# Altium footprint library Wire to Board.PcbLib: 28 footprints (part 1 of 2)
Each footprint in its own frame and in the unit in brackets; x right, y up, seen from the top. Pads: shape width x height; smd on the part's side, far side on the other; paste and mask are expansions set on the pad; w line width, h text height; cw(c..) or ccw(c..) is an arc to the next point about the centre after c.
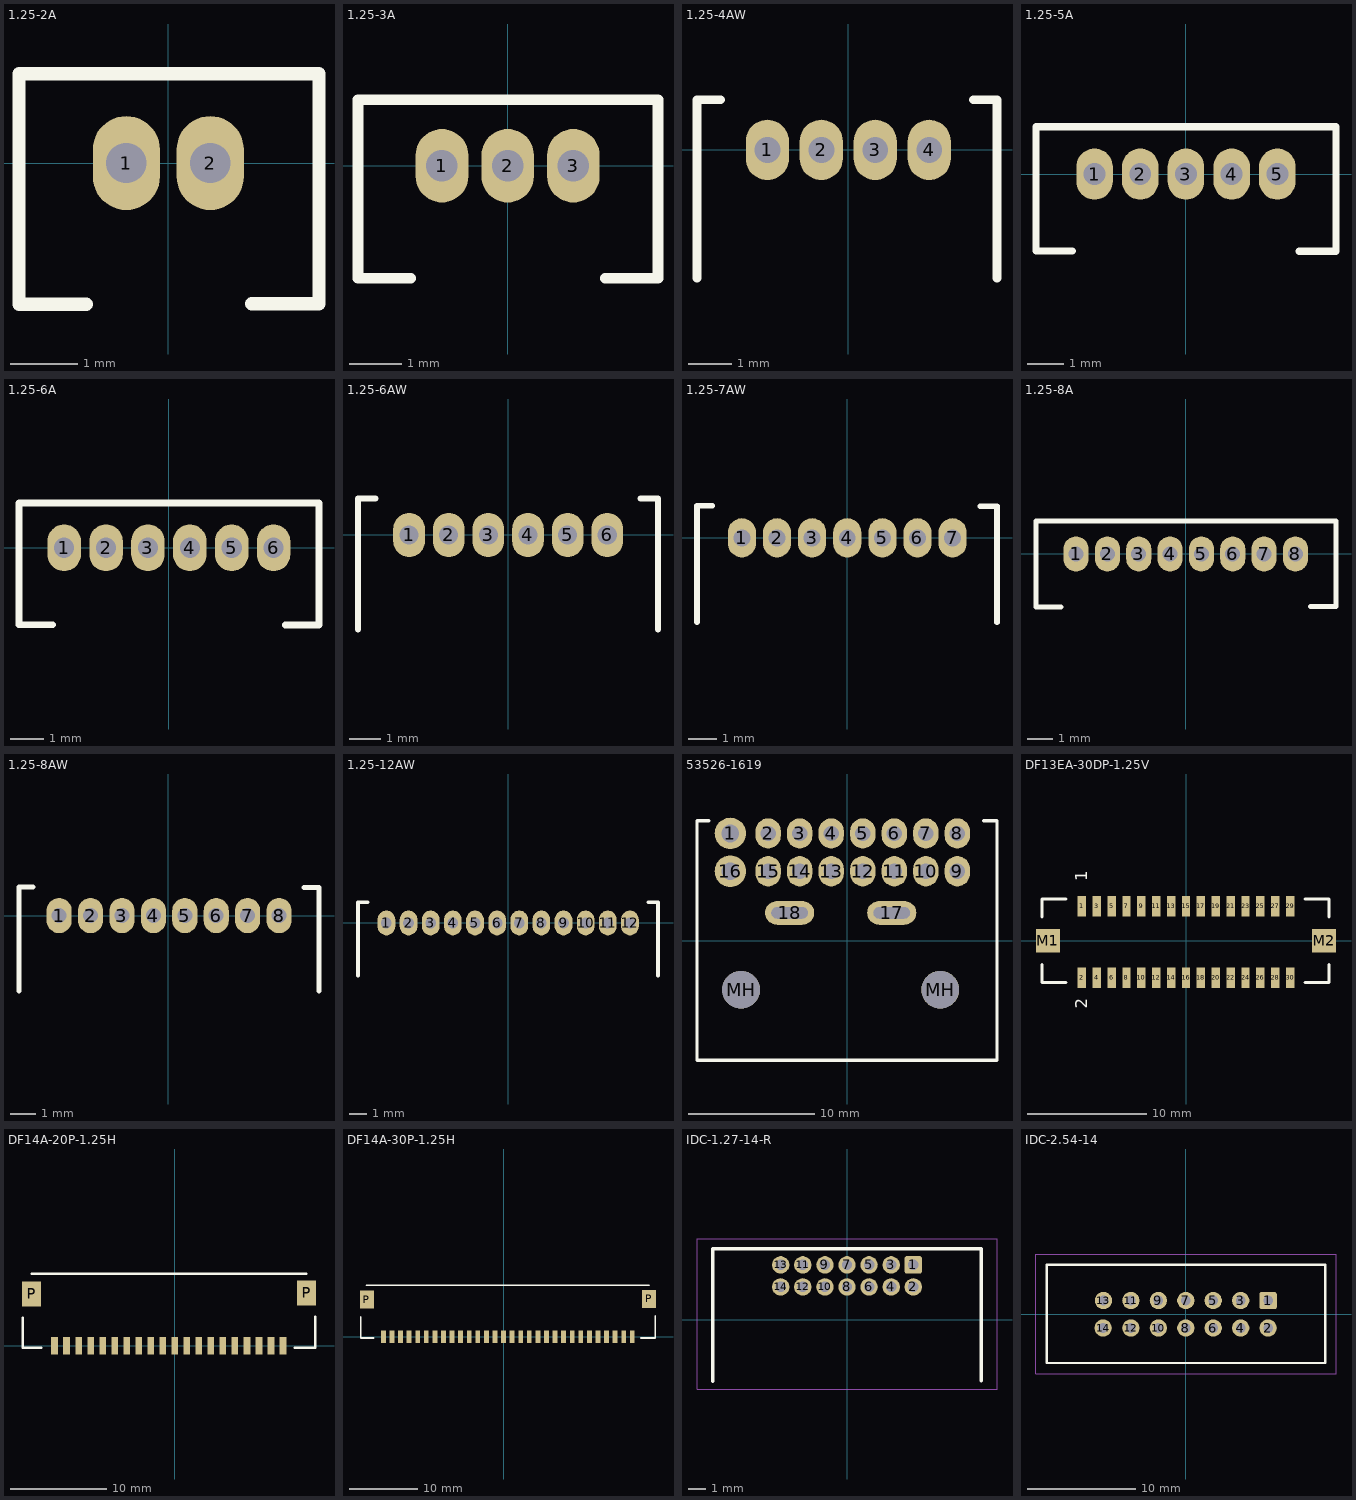
[diagram p0: the footprints below, top view; thin cyan lines are the x and y axes]

## 1.25-2A [mm] "Connector; 2 Positions;"
height 4.2
pads (2):
  oval 1x1.4 hole 0.6 mask+0.05: 1(-0.625,0) 2(0.625,0)
Top Overlay:
  lines w0.2: -1.224,-2.102 -2.224,-2.102 -2.224,1.33 2.244,1.33 2.244,-2.094 ; 1.24,-2.094 2.24,-2.094
3D body "0530470210.stp": height 4.25, standoff -2.25, extent -2.115,-1.99 2.135,1.21

## 1.25-3A [mm] "Connector; 3 Positions;"
height 4.2
pads (3):
  oval 1x1.4 hole 0.6 mask+0.05: 1(-1.25,0) 2(0,0) 3(1.25,0)
Top Overlay:
  lines w0.2: -1.848,-2.14 -2.848,-2.14 -2.848,1.257 2.86,1.257 2.86,-2.139 1.86,-2.139
3D body "0530470310.stp": height 4.25, standoff -2.25, extent -2.75,-2.04 2.75,1.16

## 1.25-4AW [mm] "Connector; 4 Positions;"
height 3.5
pads (4):
  oval 1x1.4 hole 0.6 mask+0.05: 1(-1.875,0) 2(-0.625,0) 3(0.625,0) 4(1.875,0)
Top Overlay:
  lines w0.2: -3.506,-2.973 -3.506,1.161 -2.956,1.161 ; 2.896,1.161 3.446,1.161 3.446,-2.973
3D body "0530480410.stp": height 3.55, standoff -2.25, extent -3.405,-4.45 3.345,1.05

## 1.25-5A [mm] "Connector; 5 Positions;"
height 4.6
pads (5):
  oval 1x1.4 hole 0.6 mask+0.05: 1(-2.5,0) 2(-1.25,0) 3(0,0) 4(1.25,0) 5(2.5,0)
Top Overlay:
  lines w0.2: -3.101,-2.106 -4.101,-2.106 -4.101,1.292 4.103,1.292 4.103,-2.108 ; 3.1,-2.108 4.1,-2.108
3D body "2138867.stp": height 4.3, standoff -2.2, extent -4,-2.01 4,1.19

## 1.25-6A [mm] "Connector; 6 Positions;"
height 4.6
pads (6):
  oval 1x1.4 hole 0.6 mask+0.05: 1(-3.125,0) 2(-1.875,0) 3(-0.625,0) 4(0.625,0) 5(1.875,0) 6(3.125,0)
Top Overlay:
  lines w0.2: -3.474,-2.293 -4.474,-2.293 -4.474,1.339 4.481,1.339 4.481,-2.306 ; 3.47,-2.306 4.47,-2.306
3D body "m30-6100646.stp": height 4.35, standoff -2.25, extent -4.375,-2.18 4.375,1.22

## 1.25-6AW [mm] "Connector; 6 Positions;"
height 3.5
pads (6):
  oval 1x1.4 hole 0.6 mask+0.05: 1(-3.125,0) 2(-1.875,0) 3(-0.625,0) 4(0.625,0) 5(1.875,0) 6(3.125,0)
Top Overlay:
  lines w0.2: -4.736,-2.983 -4.736,1.151 -4.186,1.151 ; 4.176,1.151 4.726,1.151 4.726,-2.983
3D body "530480610.stp": height 3.55, standoff -2.25, extent -4.625,-4.46 4.625,1.04

## 1.25-7AW [mm] "Connector; 7 Positions; Right Angle"
height 3.5
pads (7):
  oval 1x1.4 hole 0.6 mask+0.05: 1(-3.75,0) 2(-2.5,0) 3(-1.25,0) 4(0,0) 5(1.25,0) 6(2.5,0) 7(3.75,0)
Top Overlay:
  lines w0.2: -5.349,-2.993 -5.349,1.142 -4.8,1.142 ; 4.74,1.129 5.331,1.129 5.331,-3
3D body "0530480710.stp": height 3.55, standoff -2.25, extent -5.26,-4.46 5.24,1.04

## 1.25-8A [mm] "Connector; 8 Positions;"
height 4.6
pads (8):
  oval 1x1.4 hole 0.6 mask+0.05: 1(-4.375,0) 2(-3.125,0) 3(-1.875,0) 4(-0.625,0) 5(0.625,0) 6(1.875,0) 7(3.125,0) 8(4.375,0)
Top Overlay:
  lines w0.2: -4.973,-2.108 -5.973,-2.108 -5.973,1.307 5.995,1.307 5.995,-2.103 ; 4.985,-2.103 5.985,-2.103
3D body "2138886.stp": height 4.3, standoff -2.2, extent -5.86,-2.01 5.89,1.19

## 1.25-8AW [mm] "Connector; 8 Positions; Right Angle"
height 3.5
pads (8):
  oval 1x1.4 hole 0.6 mask+0.05: 1(-4.35,0) 2(-3.1,0) 3(-1.85,0) 4(-0.6,0) 5(0.65,0) 6(1.9,0) 7(3.15,0) 8(4.4,0)
Top Overlay:
  lines w0.2: -5.949,-2.993 -5.949,1.142 -5.4,1.142 ; 5.4,1.129 5.991,1.129 5.991,-3
3D body "0530480810.stp": height 3.52, standoff -2.28, extent -5.855,-4.46 5.895,1.04

## 1.25-12AW [mm] "Connector; 12 Positions; Right Angle"
height 3.5
pads (12):
  oval 1x1.4 hole 0.6 mask+0.05: 1(-6.875,0) 2(-5.625,0) 3(-4.375,0) 4(-3.125,0) 5(-1.875,0) 6(-0.625,0) 7(0.625,0) 8(1.875,0) 9(3.125,0) 10(4.375,0) 11(5.625,0) 12(6.875,0)
Top Overlay:
  lines w0.2: -8.479,-2.973 -8.479,1.162 -7.93,1.162 ; 7.91,1.162 8.459,1.162 8.459,-2.973
3D body "0530481210.stp": height 3.55, standoff -2.25, extent -8.385,-4.45 8.365,1.05

## 53526-1619 [mm]
height 24
pads (20):
  round 2.5 hole 1.4: 1(-9.25,8.5) 16(-9.25,5.5)
  oval 2x2.4 hole 1.2: 2(-6.25,8.5) 3(-3.75,8.5) 4(-1.25,8.5) 5(1.25,8.5) 6(3.75,8.5) 7(6.25,8.5) 8(8.75,8.5) 9(8.75,5.5) 10(6.25,5.5) 11(3.75,5.5) 12(1.25,5.5) 13(-1.25,5.5) 14(-3.75,5.5) 15(-6.25,5.5)
  oval 3.9x1.9 hole 0.9 slot 2.9 at 0 deg: 17(3.55,2.2) 18(-4.55,2.2)
  round 3 hole 3 unplated: MH(-8.4,-3.9) MH(7.4,-3.9)
Top Overlay:
  lines w0.254: -11.9,0.05 -11.9,9.5 ; -10.95,9.5 -11.9,9.5 ; 10.85,9.5 11.9,9.5 11.9,0.05 11.9,-9.5 -8.4,-9.5 -11.9,-9.5 -11.9,9.5

## DF13EA-30DP-1.25V [mm] "Double Row Straight Pin Header (SMT)"
height 8.8
pads (32):
  rect 0.7x1.7 smd: 1(-8.75,2.9) 2(-8.75,-3.1) 3(-7.5,2.9) 4(-7.5,-3.1) 5(-6.25,2.9) 6(-6.25,-3.1) 7(-5,2.9) 8(-5,-3.1) 9(-3.75,2.9) 10(-3.75,-3.1) 11(-2.5,2.9) 12(-2.5,-3.1) 13(-1.25,2.9) 14(-1.25,-3.1) 15(0,2.9) 16(0,-3.1) 17(1.25,2.9) 18(1.25,-3.1) 19(2.5,2.9) 20(2.5,-3.1) 21(3.75,2.9) 22(3.75,-3.1) 23(5,2.9) 24(5,-3.1) 25(6.25,2.9) 26(6.25,-3.1) 27(7.5,2.9) 28(7.5,-3.1) 29(8.75,2.9) 30(8.75,-3.1)
  rect 2x2 smd: M1(-11.6,0) M2(11.6,0)
Top Overlay:
  lines w0.254: -12.1,-2 -12.1,-3.5 -10.1,-3.5 ; -12.1,2 -12.1,3.5 -10.1,3.5 ; 10,-3.5 12,-3.5 12,-2 ; 10,3.5 12,3.5 12,2
  text "1" at -8.3,5 h1
  text "2" at -8.3,-5.7 h1
3D body "User Library-df13.step": height 4.8, standoff -0.6, extent -12.3,-3.45 12.3,3.45

## DF14A-20P-1.25H [mm] "CONN HEADER 20POS 1.25MM R/A SMD"
height 2.5
pads (22):
  rect 0.7x1.8 smd: 1(11.25,0) 2(10,0) 3(8.75,0) 4(7.5,0) 5(6.25,0) 6(5,0) 7(3.75,0) 8(2.5,0) 9(1.25,0) 10(0,0) 11(-1.25,0) 12(-2.5,0) 13(-3.75,0) 14(-5,0) 15(-6.25,0) 16(-7.5,0) 17(-8.75,0) 18(-10,0) 19(-11.25,0) 20(-12.5,0)
  rect 2x2.6 smd: P(-14.9,5.4) P(13.7,5.5)
Top Overlay:
  lines w0.254: -15.8,2.9 -15.8,-0.2 -13.9,-0.2 ; -14.9,7.5 13.7,7.5 ; 12.5,-0.2 14.6,-0.2 14.6,3
3D body "DF14A-20P-1.25H.stp": height 2.34, standoff -0.16, extent -15.567,0.032 14.383,6.732

## DF14A-30P-1.25H [mm] "CONN HEADER 30POS 1.25MM R/A SMD"
height 2.5
pads (32):
  rect 0.7x1.8 smd: 1(18.75,0) 2(17.5,0) 3(16.25,0) 4(15,0) 5(13.75,0) 6(12.5,0) 7(11.25,0) 8(10,0) 9(8.75,0) 10(7.5,0) 11(6.25,0) 12(5,0) 13(3.75,0) 14(2.5,0) 15(1.25,0) 16(0,0) 17(-1.25,0) 18(-2.5,0) 19(-3.75,0) 20(-5,0) 21(-6.25,0) 22(-7.5,0) 23(-8.75,0) 24(-10,0) 25(-11.25,0) 26(-12.5,0) 27(-13.75,0) 28(-15,0) 29(-16.25,0) 30(-17.5,0)
  rect 2x2.6 smd: P(-19.9,5.4) P(21.2,5.5)
Top Overlay:
  lines w0.254: -20.8,2.9 -20.8,-0.2 -18.9,-0.2 ; -20,7.5 21.2,7.5 ; 20,-0.2 22.1,-0.2 22.1,3
3D body "DF14A-30P-1.25H.stp": height 2.24, standoff -0.26, extent -20.567,0.032 21.883,6.732

## IDC-1.27-14-R [mm] "IDC CONN HEADER R/A 14POS 1.27MM"
height 5.1
pads (14):
  rrect25% 1x1 hole 0.6 mask+0.05: 1(3.809,3.148)
  round 1 hole 0.6 mask+0.05: 2(3.809,1.878) 3(2.539,3.148) 4(2.539,1.878) 5(1.269,3.148) 6(1.269,1.878) 7(-0.001,3.148) 8(-0.001,1.878) 9(-1.271,3.148) 10(-1.271,1.878) 11(-2.541,3.148) 12(-2.541,1.878) 13(-3.811,3.148) 14(-3.811,1.878)
Top Overlay:
  lines w0.2: -7.71,-3.53 -7.71,4.078 7.71,4.078 7.71,-3.52
Mechanical 15:
  lines w0.05: -8.621,-4.002 -8.621,4.648 8.619,4.648 8.619,-4.002 -8.621,-4.002
3D body "62701421721.stp": height 5.05, standoff -2.4, extent -7.621,-4.002 7.619,3.368

## IDC-2.54-14 [mm] "IDC CONN HEADER 14POS 2.54MM"
height 9.3
pads (14):
  rrect25% 1.6x1.6 hole 0.9 mask+0.05: 1(7.62,1.27)
  round 1.6 hole 0.9 mask+0.05: 2(7.62,-1.27) 3(5.08,1.27) 4(5.08,-1.27) 5(2.54,1.27) 6(2.54,-1.27) 7(0,1.27) 8(0,-1.27) 9(-2.54,1.27) 10(-2.54,-1.27) 11(-5.08,1.27) 12(-5.08,-1.27) 13(-7.62,1.27) 14(-7.65,-1.27)
Top Overlay:
  lines w0.2: -12.861,-4.5 -12.861,4.586 12.91,4.586 12.91,-4.5 -12.861,-4.5
Mechanical 15:
  lines w0.05: -13.86,-5.51 13.9,-5.51 13.9,5.57 -13.86,5.57 -13.86,-5.51
3D body "DS1013-14S (IDC-14MS CONNFLY).step": height 9, standoff -3.6, extent -12.77,-4.41 12.81,4.49